# EAGLE library part DRF1278F (library DRF1278F)
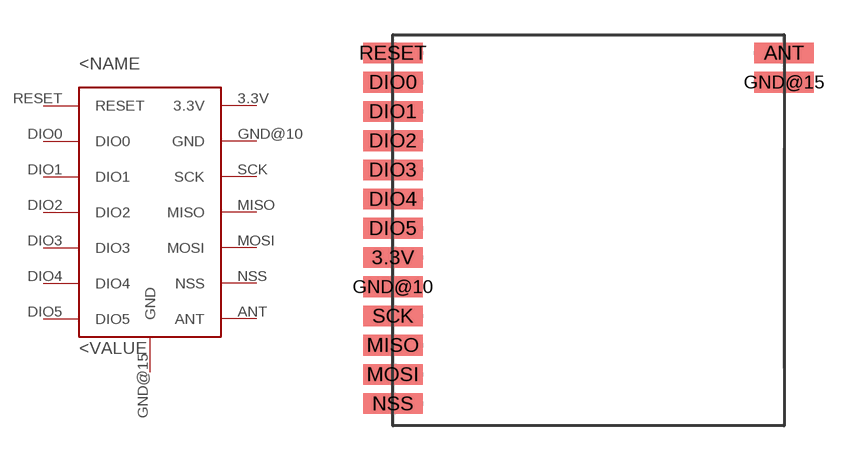
[diagram p0: symbol with the pads of DRF1278F; footprint DRF1278F]

Designator prefix -

## DRF1278F  [DRF1278F]
3.3V  3.3V
ANT  ANT
DIO0  DIO0
DIO1  DIO1
DIO2  DIO2
DIO3  DIO3
DIO4  DIO4
DIO5  DIO5
GND@10  GND
GND@15  GND
MISO  MISO
MOSI  MOSI
NSS  NSS
RESET  RESET
SCK  SCK

## Footprint DRF1278F (pad centres in mm)
smd 2.6 x 0.9: 3.3V -8.5,-1.27; ANT 8.5,7.62; DIO0 -8.5,6.35; DIO1 -8.5,5.08; DIO2 -8.5,3.81; DIO3 -8.5,2.54; DIO4 -8.5,1.27; DIO5 -8.5,0; GND@10 -8.5,-2.54; GND@15 8.5,6.35; MISO -8.5,-5.08; MOSI -8.5,-6.35; NSS -8.5,-7.62; RESET -8.5,7.62; SCK -8.5,-3.81